# EAGLE library part SH8K32TB1 (library Parts)
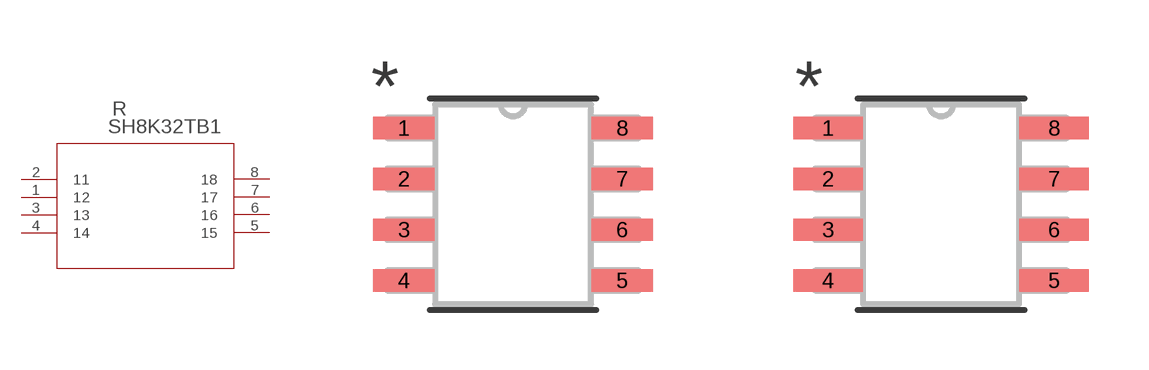
[diagram p2: symbol with the pads of TRANS_RRH040P_ROM; footprints TRANS_RRH040P_ROM, TRANS_RRH040P_ROM-M]

Designator prefix R

## SH8K32TB1 (COPYRIGHT: Copyright (C) 2021 Ultra Librarian. All rights reserved.; DIGI-KEY_PART_NUMBER_1: SH8K32TB1CT-ND; DIGI-KEY_PART_NUMBER_2: SH8K32TB1DKR-ND; DIGI-KEY_PART_NUMBER_3: SH8K32TB1TR-ND; MANUFACTURER_PART_NUMBER: SH8K32TB1; MFR_NAME: ROHM Semiconductor)  [TRANS_RRH040P_ROM]
1  12  pas
2  11  pas
3  13  pas
4  14  pas
5  15  pas
6  16  pas
7  17  pas
8  18  pas

## SH8K32TB1TRANS_RRH040P_ROM-M (COPYRIGHT: Copyright (C) 2021 Ultra Librarian. All rights reserved.; DIGI-KEY_PART_NUMBER_1: SH8K32TB1CT-ND; DIGI-KEY_PART_NUMBER_2: SH8K32TB1DKR-ND; DIGI-KEY_PART_NUMBER_3: SH8K32TB1TR-ND; MANUFACTURER_PART_NUMBER: SH8K32TB1; MFR_NAME: ROHM Semiconductor)  [TRANS_RRH040P_ROM-M]
Pads as for TRANS_RRH040P_ROM

## SH8K32TB1TRANS_RRH040P_ROM-L (COPYRIGHT: Copyright (C) 2021 Ultra Librarian. All rights reserved.; DIGI-KEY_PART_NUMBER_1: SH8K32TB1CT-ND; DIGI-KEY_PART_NUMBER_2: SH8K32TB1DKR-ND; DIGI-KEY_PART_NUMBER_3: SH8K32TB1TR-ND; MANUFACTURER_PART_NUMBER: SH8K32TB1; MFR_NAME: ROHM Semiconductor)  [TRANS_RRH040P_ROM-L]
Pads as for TRANS_RRH040P_ROM

## Footprint TRANS_RRH040P_ROM (pad centres in mm)
smd 1.538 x 0.558: 1 -2.731,1.905; 2 -2.731,0.635; 3 -2.731,-0.635; 4 -2.731,-1.905; 5 2.731,-1.905; 6 2.731,-0.635; 7 2.731,0.635; 8 2.731,1.905

## Footprint TRANS_RRH040P_ROM-M (pad centres in mm)
smd 1.744 x 0.558: 1 -2.828,1.905; 2 -2.828,0.635; 3 -2.828,-0.635; 4 -2.828,-1.905; 5 2.828,-1.905; 6 2.828,-0.635; 7 2.828,0.635; 8 2.828,1.905

## Footprint TRANS_RRH040P_ROM-L (pad centres in mm)
smd 1.238 x 0.508: 1 -2.68,1.905; 2 -2.68,0.635; 3 -2.68,-0.635; 4 -2.68,-1.905; 5 2.68,-1.905; 6 2.68,-0.635; 7 2.68,0.635; 8 2.68,1.905